# Altium schematic symbol library TPS54302DDCT.SchLib: 1 symbol
Pins are listed as number, name and electrical type; pins without a type are passive.

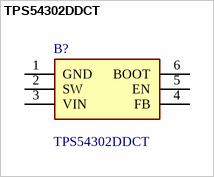
[diagram p0: symbol TPS54302DDCT]

## TPS54302DDCT
designator B?
4.5-V to 28-V Input, 3-A Output, EMI Friendly Synchronous Step-Down Converter; Manufacturer_Name: Texas Instruments; Geometry.Height: 1.1mm; Mouser Part Number: 595-TPS54302DDCT; Mouser Price/Stock: https://www.mouser.co.uk/ProductDetail/Texas-Instruments/TPS54302DDCT?qs=zEmsApcVOkXGTx6CMk2KtQ%3D%3D; Manufacturer_Part_Number: TPS54302DDCT; Datasheet Link: https://componentsearchengine.com/Datasheets/2/TPS54302DDCT.pdf
footprint SOT95P280X110-6N
pins: 1 GND, 2 SW, 3 VIN, 4 FB, 5 EN, 6 BOOT